# EAGLE library part IRF8910 (library steves)
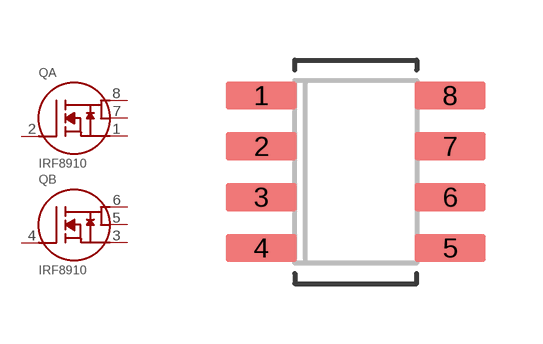
[diagram p9: symbol with the pads of SO-8; footprint SO-8]

Designator prefix Q; gates A=MOSFET-N4 B=MOSFET-N4

## IRF8910  [SO-8]
1  A:S  in
2  A:G  in
3  B:S  in
4  B:G  in
5  B:D2  in
6  B:D1  in
7  A:D2  in
8  A:D1  in

## Footprint SO-8 (pad centres in mm)
smd 1.778 x 0.711: 1 -2.362,1.905; 2 -2.362,0.635; 3 -2.362,-0.635; 4 -2.362,-1.905; 5 2.362,-1.905; 6 2.362,-0.635; 7 2.362,0.635; 8 2.362,1.905